# Altium footprint library MCCQ121.PcbLib: 1 footprints
Each footprint in its own frame and in the unit in brackets; x right, y up, seen from the top. Pads: shape width x height; smd on the part's side, far side on the other; paste and mask are expansions set on the pad; w line width, h text height; cw(c..) or ccw(c..) is an arc to the next point about the centre after c.
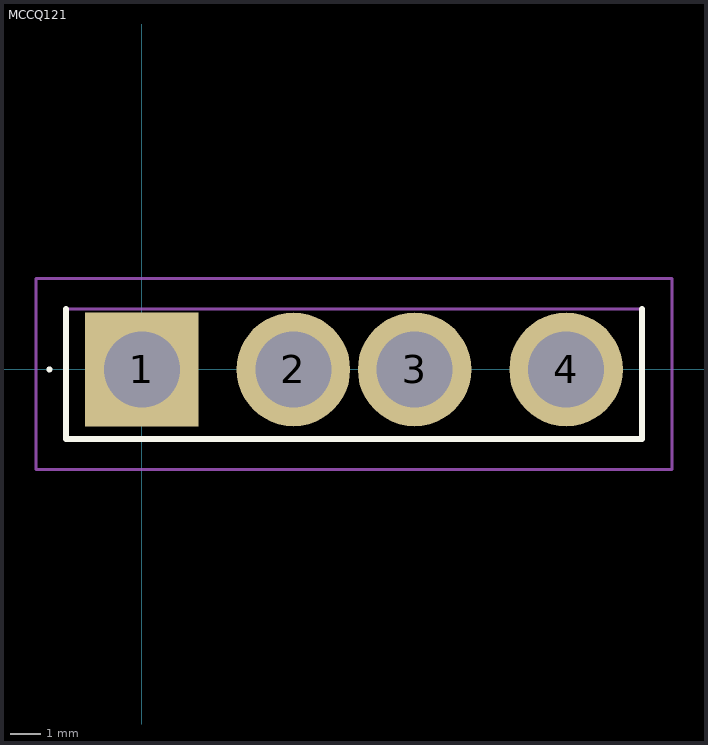
[diagram p0: the footprint, top view; thin cyan lines are the x and y axes]

## MCCQ121 [mm]
pads (4):
  rect 3.75x3.75 hole 2.5: 1(0,0)
  round 3.75 hole 2.5: 2(5,0) 3(9,0) 4(14,0)
Top Overlay:
  lines w0.1: -3.1,0 cw(c-3.05,0) -3,0 ; -3.1,0 -3.1,0 ; -3.1,0 ccw(c-3.05,0) -3,0 ; -3,0 -3,0
  lines w0.2: -2.5,2 -2.5,-2.3 16.5,-2.3 16.5,2
Mechanical 15:
  lines w0.1: -2.5,-2.3 16.5,-2.3 16.5,2 -2.5,2 -2.5,-2.3
Mechanical 20:
  lines w0.1: -3.5,-3.3 17.5,-3.3 17.5,3 -3.5,3 -3.5,-3.3